# Altium footprint library 2pin.PcbLib: 1 footprints
Each footprint in its own frame and in the unit in brackets; x right, y up, seen from the top. Pads: shape width x height; smd on the part's side, far side on the other; paste and mask are expansions set on the pad; w line width, h text height; cw(c..) or ccw(c..) is an arc to the next point about the centre after c.
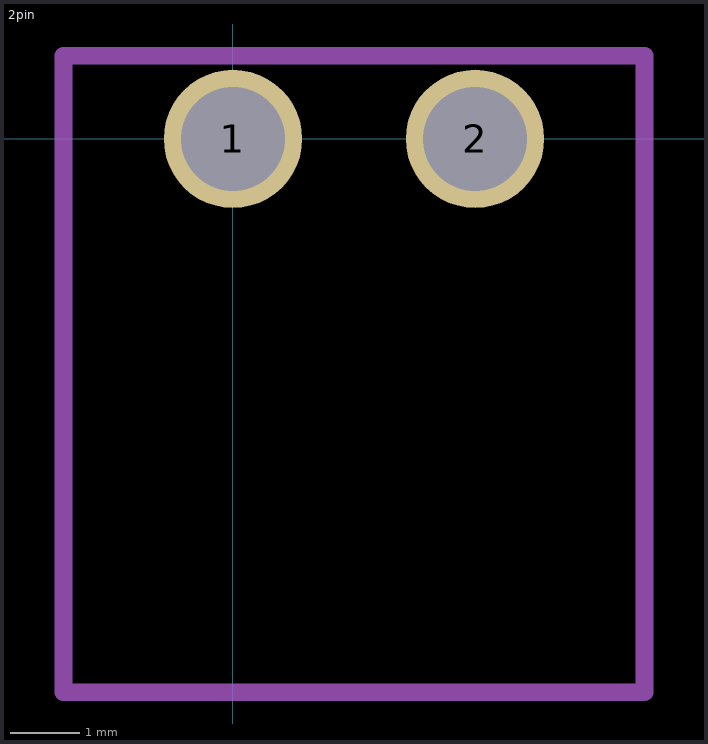
[diagram p0: the footprint, top view; thin cyan lines are the x and y axes]

## 2pin [mm]
pads (2):
  round 2 hole 1.5: 1(0,0) 2(3.5,0)
Mechanical 1:
  lines w0.254: -2.45,-7.999 -2.45,1.201 5.95,1.201 5.95,-7.999 -2.45,-7.999
3D body "1844210.stp": height 7.25, standoff -3.4, extent -2.45,-7.999 5.95,1.201